# EAGLE library part CON_HE10_14P (library IUTV3)
CONNECTOR
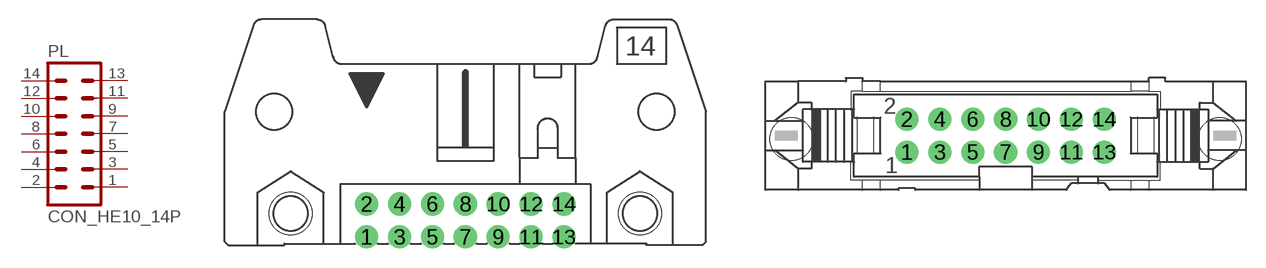
[diagram p43: symbol with the pads of 14H; footprints 14H, 14V]

Designator prefix PL

## CON_HE10_14P (MF: AMPHENOL; MOT_CLES_FARNELL: Connecteur fil-à-carte,Embase 14p horizontal a verrouillage 2.54 mm; MOT_CLES_RADIOSPARE: Embases de circuit imprimé horizontal a verrouillage 14p 2.54 mm; MPN: T816114A1S102CEU; OC_FARNELL: 2217530)  [14H]
1  1  pas
2  2  pas
3  3  pas
4  4  pas
5  5  pas
6  6  pas
7  7  pas
8  8  pas
9  9  pas
10  10  pas
11  11  pas
12  12  pas
13  13  pas
14  14  pas

## CON_HE10_14PV (MF: AMPHENOL; MOT_CLES: Connecteur fil-à-carte, Embase 14p a verrouillage Traversant 2.54 mm; MOT_CLES_RADIOSPARE: Embases de circuit imprimé, a verrouillage 14p 2.54 mm; MPN: T816114A1R101CEU; OC_FARNELL: 2215278)  [14V]
Pads as for 14H

## CON_HE10_14PT (MF: TE Connectivity; MOT_CLES_FARNELL: Connecteur fil-à-carte,Embase 10p 2.54 mm; MOT_CLES_RADIOSPARE: Embases de circuit imprimé, Vertical Traversant 10p 2.54 mm; MPN: 826925-7; OC_FARNELL: 1248137; OC_RADIOSPARE: 669-5358)  [MA07-2]
Pads as for 14H

## CON_HE10_14PR (MF: AMPHENOL; MOT_CLES_FARNELL: Connecteur fil-à-carte, Vertical Traversant Embase 14p 2.54 mm; MOT_CLES_RADIOSPARE: Embases de circuit imprimé Vertical Traversant 14p 2.54 mm; MPN: T821114A1S100CEU; OC_FARNELL: 2215307)  [ML14]
Pads as for 14H

## CON_HE10_14PE (MF: AMPHENOL; MOT_CLES_FARNELL: Connecteur fil-à-carte, Horizontal Traversant Embase 14p 2.54 mm; MOT_CLES_RADIOSPARE: Embases de circuit imprimé Vertical Traversant 14p 2.54 mm; MPN: T821114A1R100CEU; OC_FARNELL: 2215292)  [ML14L]
Pads as for 14H

## Footprint 14H (pad centres in mm)
CONNECTOR
drill 1 pad 1.778: 1 -7.62,-1.27; 2 -7.62,1.27; 3 -5.08,-1.27; 4 -5.08,1.27; 5 -2.54,-1.27; 6 -2.54,1.27; 7 0,-1.27; 8 0,1.27; 9 2.54,-1.27; 10 2.54,1.27; 11 5.08,-1.27; 12 5.08,1.27; 13 7.62,-1.27; 14 7.62,1.27
hole 3.302 at -13.462,0.533
hole 3.302 at 13.462,0.533

## Footprint 14V (pad centres in mm)
CONNECTOR
drill 1 pad 1.778: 1 -7.62,-1.27; 2 -7.62,1.27; 3 -5.08,-1.27; 4 -5.08,1.27; 5 -2.54,-1.27; 6 -2.54,1.27; 7 0,-1.27; 8 0,1.27; 9 2.54,-1.27; 10 2.54,1.27; 11 5.08,-1.27; 12 5.08,1.27; 13 7.62,-1.27; 14 7.62,1.27
hole 3.302 at 16.51,-0.254
hole 3.302 at -16.51,-0.254

## Footprint MA07-2 (pad centres in mm)
PIN HEADER
drill 1.016 pad 1.778: 1 -7.62,-1.27; 2 -7.62,1.27; 3 -5.08,-1.27; 4 -5.08,1.27; 5 -2.54,-1.27; 6 -2.54,1.27; 7 0,-1.27; 8 0,1.27; 9 2.54,-1.27; 10 2.54,1.27; 11 5.08,-1.27; 12 5.08,1.27; 13 7.62,-1.27; 14 7.62,1.27

## Footprint ML14 (pad centres in mm)
HARTING
drill 1 pad 1.778: 1 -7.62,-1.27; 2 -7.62,1.27; 3 -5.08,-1.27; 4 -5.08,1.27; 5 -2.54,-1.27; 6 -2.54,1.27; 7 0,-1.27; 8 0,1.27; 9 2.54,-1.27; 10 2.54,1.27; 11 5.08,-1.27; 12 5.08,1.27; 13 7.62,-1.27; 14 7.62,1.27

## Footprint ML14L (pad centres in mm)
HARTING
drill 1 pad 1.778: 1 -7.62,-1.27; 2 -7.62,1.27; 3 -5.08,-1.27; 4 -5.08,1.27; 5 -2.54,-1.27; 6 -2.54,1.27; 7 0,-1.27; 8 0,1.27; 9 2.54,-1.27; 10 2.54,1.27; 11 5.08,-1.27; 12 5.08,1.27; 13 7.62,-1.27; 14 7.62,1.27